# EAGLE library part USB-B-FEMALE-180 (library my_con)
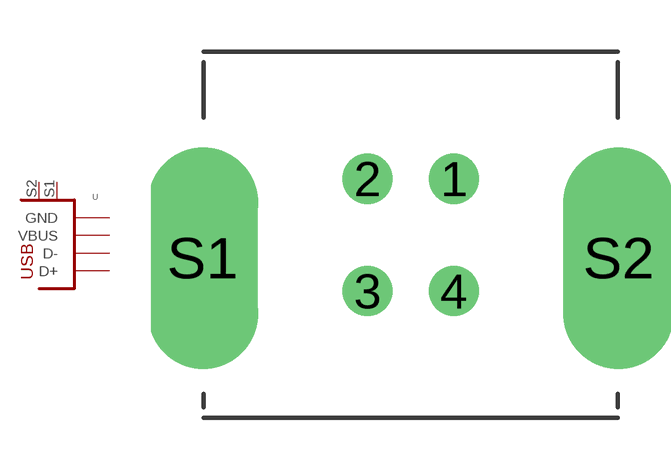
[diagram p7: symbol with the pads of USB-TYPE-B-FEMALE-180; footprint USB-TYPE-B-FEMALE-180]

Designator prefix -

## USB-B-FEMALE-180  [USB-TYPE-B-FEMALE-180]
1  VBUS
2  D-
3  D+
4  GND
S1  S1
S2  S2

## Footprint USB-TYPE-B-FEMALE-180 (pad centres in mm)
drill 0.95: 1 1.25,1.625; 2 -1.25,1.625; 3 -1.25,-1.625; 4 1.25,-1.625
drill 2.2 long: S1 -6.02,-0.675; S2 6.02,-0.675